# EAGLE library part APT96600 (library EL_POTENCIA_LIBRERIA_VES2018)
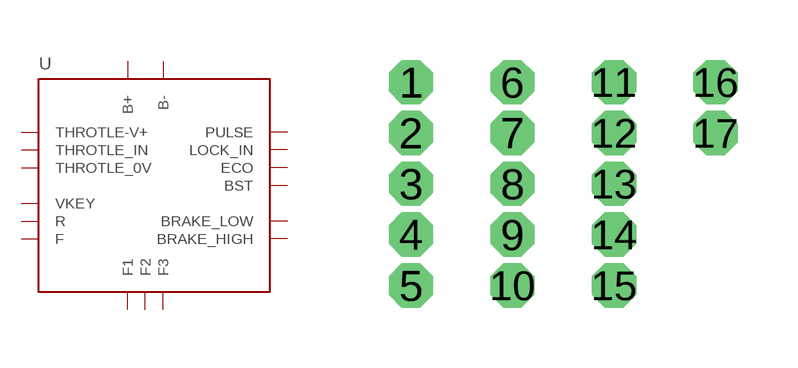
[diagram p15: symbol with the pads of APT96600; footprint APT96600]

Designator prefix -

## APT96600  [APT96600]
1  B+
2  B-
3  BRAKE_HIGH
4  BRAKE_LOW
5  BST
6  ECO
7  F
8  F1
9  F2
10  F3
11  LOCK_IN
12  PULSE
13  R
14  THROTLE-V+
15  THROTLE_0V
16  THROTLE_IN
17  VKEY

## Footprint APT96600 (pad centres in mm)
drill 0.6 octagon: 1 -8.89,5.08; 2 -8.89,3.81; 3 -8.89,2.54; 4 -8.89,1.27; 5 -8.89,0; 6 -6.35,5.08; 7 -6.35,3.81; 8 -6.35,2.54; 9 -6.35,1.27; 10 -6.35,0; 11 -3.81,5.08; 12 -3.81,3.81; 13 -3.81,2.54; 14 -3.81,1.27; 15 -3.81,0; 16 -1.27,5.08; 17 -1.27,3.81